# EAGLE library part LT3748 (library PowerProducts)
LT-Spice library generated with : ltspice.ulp from: D:/Program Files (x86)/LTC/LTspiceIV/lib/sym/PowerProducts/LT3750*.asy at 07.10.2012 16:36:28
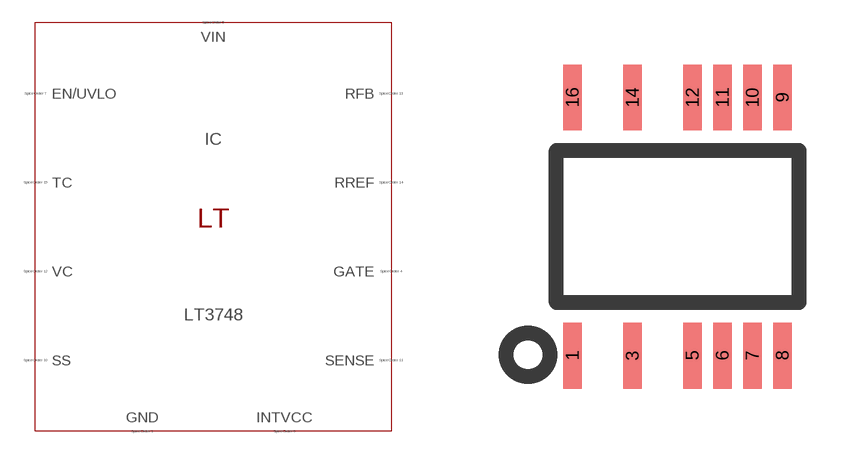
[diagram p94: symbol with the pads of MSOP16-12(MS); footprint MSOP16-12(MS)]

Designator prefix IC

## LT3748 (SPICEMODEL: LT3748.sub; SPICEPREFIX: X; VALUE2: LT3748)  [MSOP16-12(MS)]
1  VIN  pas
3  EN/UVLO  pas
5  INTVCC  pas
6  GATE  pas
7  SENSE  pas
8  GND  pas
9  GND  pas
10  SS  pas
11  VC  pas
12  TC  pas
14  RREF  pas
16  RFB  pas

## Footprint MSOP16-12(MS) (pad centres in mm)
Package generated from: MSOP16-12(MS).asc (!PADS-POWERPCB-V9.3-BASIC! DESIGN DATABASE ASCII FILE 1.0) with :import-pads-powerpcb-v5.ulp Version 1.0.1 at 04.10.2012 14:11:20
smd 0.458 x 1.65: 1 -2.625,-3.225; 3 -1.125,-3.225; 5 0.375,-3.225; 6 1.125,-3.225; 7 1.875,-3.225; 8 2.625,-3.225; 9 2.625,3.225; 10 1.875,3.225; 11 1.125,3.225; 12 0.375,3.225; 14 -1.125,3.225; 16 -2.625,3.225